# EAGLE library part SD-47272 (library con-molex)
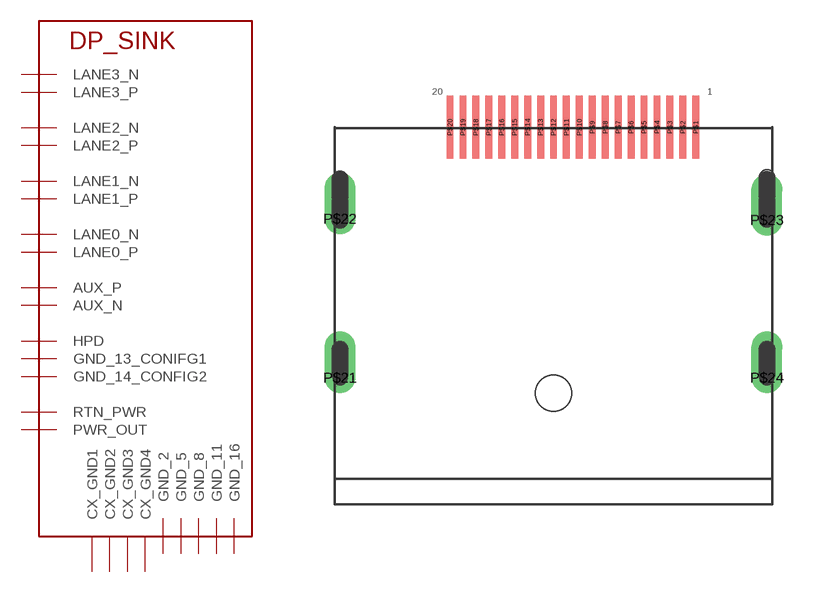
[diagram p0: symbol with the pads of SD-47272; footprint SD-47272]

Designator prefix U

## SD-47272DP_SINK  [SD-47272]
P$1  LANE3_N  in
P$2  GND_2  pwr
P$3  LANE3_P  in
P$4  LANE2_N  in
P$5  GND_5  pwr
P$6  LANE2_P  in
P$7  LANE1_N  in
P$8  GND_8  pwr
P$9  LANE1_P  in
P$10  LANE0_N  in
P$11  GND_11  pwr
P$12  LANE0_P  in
P$13  GND_13_CONIFG1  pwr
P$14  GND_14_CONFIG2  pwr
P$15  AUX_P
P$16  GND_16  pwr
P$17  AUX_N
P$18  HPD  out
P$19  RTN_PWR  pwr
P$20  PWR_OUT  pwr
P$21  CX_GND1  pwr
P$22  CX_GND2  pwr
P$23  CX_GND3  pwr
P$24  CX_GND4  pwr

## Footprint SD-47272 (pad centres in mm)
DisplayPort Connector
smd 0.28 x 2.4: P$1 5.5,14.6; P$2 5,14.6; P$3 4.5,14.6; P$4 4,14.6; P$5 3.5,14.6; P$6 3,14.6; P$7 2.5,14.6; P$8 2,14.6; P$9 1.5,14.6; P$10 1,14.6; P$11 0.5,14.6; P$12 0,14.6; P$13 -0.5,14.6; P$14 -1,14.6; P$15 -1.5,14.6; P$16 -2,14.6; P$17 -2.5,14.6; P$18 -3,14.6; P$19 -3.5,14.6; P$20 -4,14.6
drill 0.6 pad 1.2 offset: P$21 -8.25,4.9; P$22 -8.25,11.05; P$23 8.25,11; P$24 8.25,4.9
hole 1.4 at 0,4.3
hole 0.6 at -8.25,12.6
hole 0.6 at -8.25,12.45
hole 0.6 at -8.25,12.3
hole 0.6 at -8.25,12.2
hole 0.6 at -8.25,12.05
hole 0.6 at -8.25,11.9
hole 0.6 at -8.25,11.7
hole 0.6 at -8.25,11.55
hole 0.6 at -8.25,11.4
hole 0.6 at -8.25,11.3
hole 0.6 at -8.25,11
hole 0.6 at -8.25,11.2
hole 0.6 at -8.25,5.05
hole 0.6 at -8.25,5.2
hole 0.6 at -8.25,5.35
hole 0.6 at -8.25,5.5
hole 0.6 at -8.25,5.65
hole 0.6 at -8.25,5.75
hole 0.6 at -8.25,5.85
hole 0.6 at -8.25,6
hole 0.6 at 8.25,5.05
hole 0.6 at 8.25,5.2
hole 0.6 at 8.25,5.35
hole 0.6 at 8.25,5.5
hole 0.6 at 8.25,5.65
hole 0.6 at 8.25,5.75
hole 0.6 at 8.25,5.85
hole 0.6 at 8.25,6
hole 0.6 at 8.25,12.65
hole 0.6 at 8.25,12.5
hole 0.6 at 8.25,12.35
hole 0.6 at 8.25,12.25
hole 0.6 at 8.25,12.1
hole 0.6 at 8.25,11.95
hole 0.6 at 8.25,11.75
hole 0.6 at 8.25,11.6
hole 0.6 at 8.25,11.45
hole 0.6 at 8.25,11.35
hole 0.6 at 8.25,11.05
hole 0.6 at 8.25,11.25
hole 0.6 at 8.25,11.1